# Altium footprint library PCB - RESISTOR - CHIP - STACKPOLE CSM2512.PCBLIB: 1 footprints
Each footprint in its own frame and in the unit in brackets; x right, y up, seen from the top. Pads: shape width x height; smd on the part's side, far side on the other; paste and mask are expansions set on the pad; w line width, h text height; cw(c..) or ccw(c..) is an arc to the next point about the centre after c.
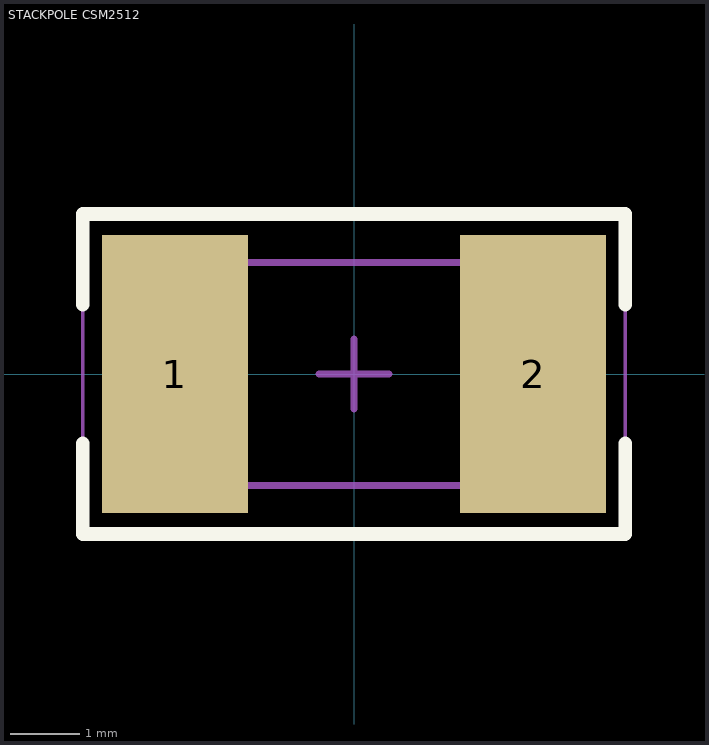
[diagram p0: the footprint, top view; thin cyan lines are the x and y axes]

## STACKPOLE CSM2512 [mm] "Chip Resistor, 2-Leads, Body 6.40x3.20mm, IPC Medium Density"
height 0.65
pads (2):
  rect 2.1x4 smd: 1(-2.575,0) 2(2.575,0)
Top Overlay:
  lines w0.2: -3.9,-1 -3.9,-2.3 3.9,-2.3 3.9,-1 ; -3.9,1 -3.9,2.3 3.9,2.3 3.9,1
Mechanical 13:
  lines w0.1: -3.3,-1.6 3.3,-1.6 3.3,1.6 -3.3,1.6 -3.3,-1.6
Mechanical 15:
  lines w0.05: -3.9,-2.3 3.9,-2.3 3.9,2.3 -3.9,2.3 -3.9,-2.3
  lines w0.1: -0.5,0 0.5,0 ; 0,-0.5 0,0.5
3D body "RES -STACKPOLE CSM2512.step": height 0.7, standoff 0, extent -3.2,-1.6 3.2,1.6